# Altium footprint library 22.6mm_FuseHolder_THT.PcbLib: 1 footprints
Each footprint in its own frame and in the unit in brackets; x right, y up, seen from the top. Pads: shape width x height; smd on the part's side, far side on the other; paste and mask are expansions set on the pad; w line width, h text height; cw(c..) or ccw(c..) is an arc to the next point about the centre after c.
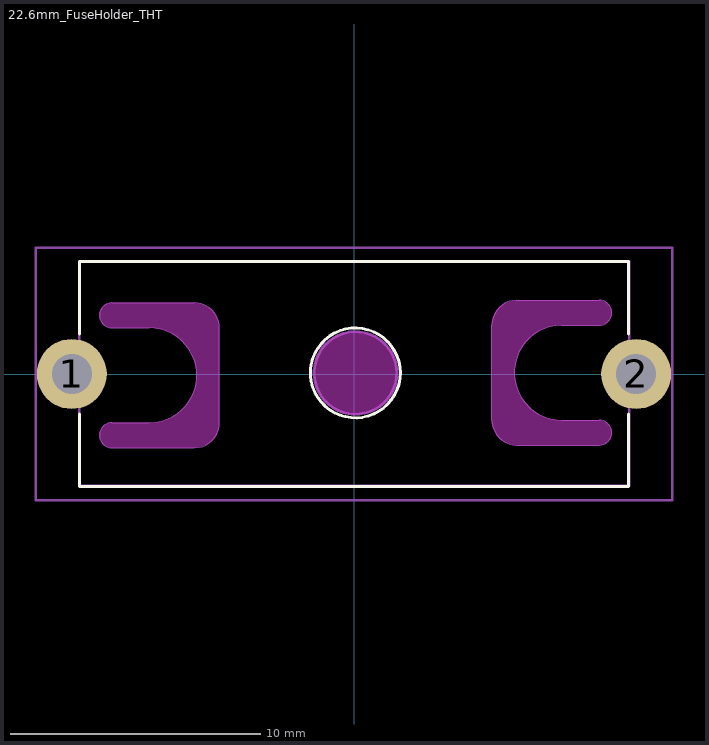
[diagram p0: the footprint, top view; thin cyan lines are the x and y axes]

## 22.6mm_FuseHolder_THT [mm] "22.6mm_FuseHolder_THT"
pads (2):
  round 2.8 hole 1.6 paste-2.8 mask+0: 1(-11.3,0) 2(11.3,0)
Top Overlay:
  circle w0.12: c0.053,0.044 r1.8
  lines w0.12: -11,-1.6 -11,-4.5 11,-4.5 11,-1.6 ; -11,1.6 -11,4.5 11,4.5 11,1.6
Keep-Out Layer:
  drawing of 3 lines, arcs and shapes, not listed
Mechanical 1:
  circle w0.12: c0.06,0.041 r1.655
  lines w0.05: -9.691,-2.953 cw(c-9.691,-2.453) -9.691,-1.953 -8.191,-1.953 ccw(c-8.191,-0.053) -8.191,1.847 -9.691,1.847 cw(c-9.691,2.347) -9.691,2.847 -6.391,2.847 cw(c-6.391,1.847) -5.391,1.847 -5.391,-1.953 cw(c-6.391,-1.953) -6.391,-2.953 -9.691,-2.953 ; 5.518,-1.847 ccw(c6.518,-1.847) 6.518,-2.847 9.818,-2.847 ccw(c9.818,-2.347) 9.818,-1.847 8.318,-1.847 cw(c8.318,0.053) 8.318,1.953 9.818,1.953 ccw(c9.818,2.453) 9.818,2.953 6.518,2.953 ccw(c6.518,1.953) 5.518,1.953 5.518,-1.847
  lines w0.1: -12.74,-5.061 12.74,-5.061 12.74,5.061 -12.74,5.061 -12.74,-5.061 ; -11.006,-4.473 11.025,-4.473 11.025,4.517 -11.006,4.517 -11.006,-4.473
  text ".Designator" at 0,2.076 h2
Top Courtyard:
  text "+" at -0.833,-1.25 h2.5
3D body "Fuse_holder.stp": height 15.1, standoff -5.11, extent -12.2,-5 12.8,5